# Altium schematic symbol library SLW-103-01-G-D.Schlib: 1 symbol
Pins are listed as number, name and electrical type; pins without a type are passive.

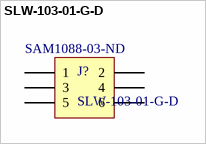
[diagram p0: symbol SLW-103-01-G-D]

## SLW-103-01-G-D
designator J?  Supplier Part Number 1: SAM1088-03-ND
6 pos 100mil pitch low profile header; Supplier 1: Digi-Key
footprint SLW-103-01-X-D (CONN RCPT 6POS 0.1 GOLD PCB)
pins: 1, 2, 3, 4, 5, 6